# Altium schematic symbol library Regulator_Switching.SchLib: 1279 symbols (part 6 of 14)
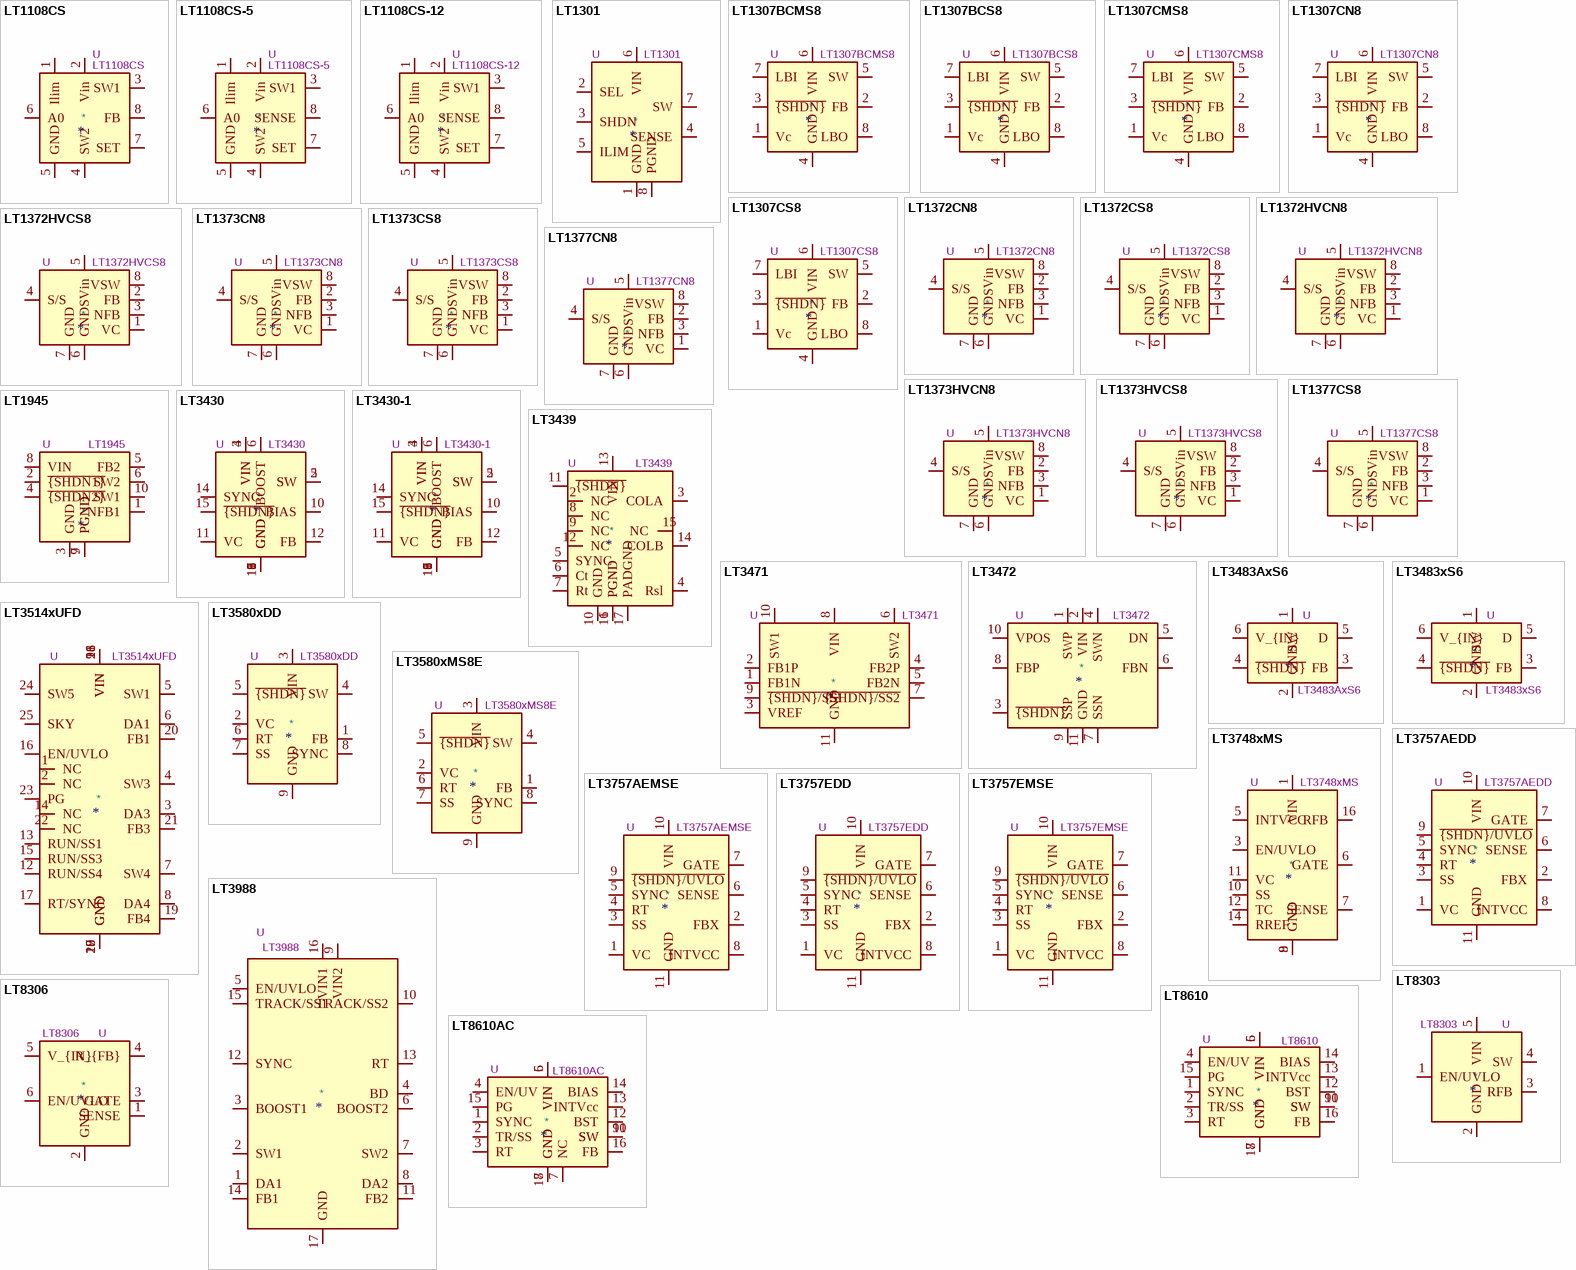
[diagram p37: symbols LT1108CS to LT8610AC]

## LT3439
designator *  value LT3439  Reference: U
1A Slew Rate Controlled Ultralow Noise Isolated DC/DC Transformer Driver, TSSOP-16; ki_fp_filters: TSSOP*EP*4.4x5mm*P0.65mm*; Footprint: Package_SO:TSSOP-16-1EP_4.4x5mm_P0.65mm; Datasheet: https://www.analog.com/media/en/technical-documentation/data-sheets/3439fs.pdf; Description_: 1A Slew Rate Controlled Ultralow Noise Isolated DC/DC Transformer Driver, TSSOP-16; ki_keywords: Isolated DC/DC Transformer Driver
pins: 1 PGND, 2 NC, 3 COLA, 4 Rsl, 5 SYNC, 6 Ct, 7 Rt, 8 NC, 9 NC, 10 GND, 11 ~{{SHDN}}, 12 NC, 13 VIN, 14 COLB, 15 NC, 16 PGND, 17 PADGND

## LT3471
designator *  value LT3471  Reference: U
Dual 1.3A, 1.2MHz Boost/Inverter, DFN-10; ki_keywords: dc/dc converter boost inverter; ki_fp_filters: DFN*1EP*3x3mm*P0.5mm*; Footprint: Package_DFN_QFN:DFN-10-1EP_3x3mm_P0.5mm_EP1.65x2.38mm; Datasheet: https://www.analog.com/media/en/technical-documentation/data-sheets/3471fb.pdf; Description_: Dual 1.3A, 1.2MHz Boost/Inverter, DFN-10
pins: 1 FB1N, 2 FB1P, 3 VREF, 4 FB2P, 5 FB2N, 6 SW2, 7 ~{{SHDN}/SS2}, 8 VIN, 9 ~{{SHDN}/SS1}, 10 SW1, 11 GND

## LT3472
designator *  value LT3472  Reference: U
Boost and Inverting DC/DC Converter for CCD Bias, DFN-10; ki_keywords: DC/DC converter CCD Bias Boost; ki_fp_filters: DFN*1EP*3x3mm*P0.5mm*; Footprint: Package_DFN_QFN:DFN-10-1EP_3x3mm_P0.5mm_EP1.65x2.38mm; Datasheet: https://www.analog.com/media/en/technical-documentation/data-sheets/3472f.pdf; Description_: Boost and Inverting DC/DC Converter for CCD Bias, DFN-10
pins: 1 SWP, 2 VIN, 3 ~{{SHDN}}, 4 SWN, 5 DN, 6 FBN, 7 SSN, 8 FBP, 9 SSP, 10 VPOS, 11 GND

## LT3483AxS6
designator *  value LT3483AxS6  Reference: U
Inverting Micropower DC/DC Converter with integrated schottky, 2.5V to 16V input, down to -38V output, 400mA, TSOT-23-6 package; ki_keywords: Inverting Converter Negative; ki_fp_filters: TSOT?23*; Footprint: Package_TO_SOT_SMD:TSOT-23-6; Datasheet: https://www.analog.com/media/en/technical-documentation/data-sheets/3483fc.pdf; Description_: Inverting Micropower DC/DC Converter with integrated schottky, 2.5V to 16V input, down to -38V output, 400mA, TSOT-23-6 package
pins: 1 SW, 2 GND, 3 FB, 4 ~{{SHDN}}, 5 D, 6 V_{IN}

## LT3483xS6
designator *  value LT3483xS6  Reference: U
Inverting Micropower DC/DC Converter with integrated schottky, 2.5V to 16V input, down to -38V output, 200mA, TSOT-23-6 package; ki_keywords: Inverting Converter Negative; ki_fp_filters: TSOT?23*; Footprint: Package_TO_SOT_SMD:TSOT-23-6; Datasheet: https://www.analog.com/media/en/technical-documentation/data-sheets/3483fc.pdf; Description_: Inverting Micropower DC/DC Converter with integrated schottky, 2.5V to 16V input, down to -38V output, 200mA, TSOT-23-6 package
pins: 1 SW, 2 GND, 3 FB, 4 ~{{SHDN}}, 5 D, 6 V_{IN}

## LT3514xUFD
designator *  value LT3514xUFD  Reference: U
Triple Step-Down Switching Regulator with 100% Duty Cycle Operation, QFN-28; ki_fp_filters: QFN*4x5mm*P0.5mm*; Footprint: Package_DFN_QFN:QFN-28-1EP_4x5mm_P0.5mm_EP2.65x3.65mm_ThermalVias; Datasheet: https://www.analog.com/media/en/technical-documentation/data-sheets/3514fa.pdf; Description_: Triple Step-Down Switching Regulator with 100% Duty Cycle Operation, QFN-28; ki_keywords: triple step-down
pins: 1 NC, 2 NC, 3 DA3, 4 SW3, 5 SW1, 6 DA1, 7 SW4, 8 DA4, 9 VIN, 10 GND, 11 VIN, 12 RUN/SS4, 13 RUN/SS1, 14 NC, 15 RUN/SS3, 16 EN/UVLO, 17 RT/SYNC, 18 GND, 19 FB4, 20 FB1, 21 FB3, 22 NC, 23 PG, 24 SW5, 25 SKY, 26 VIN, 27 GND, 28 VIN, 29 GND

## LT3580xDD
designator *  value LT3580xDD  Reference: U
Boost/Inverting DC/DC Converter with 2A Switch, Soft-Start, and Synchronization, DFN-8; ki_keywords: boost inverting dc-dc; ki_fp_filters: DFN*1EP*3x3mm*P0.5mm*; Footprint: Package_DFN_QFN:DFN-8-1EP_3x3mm_P0.5mm_EP1.66x2.38mm; Datasheet: https://www.analog.com/media/en/technical-documentation/data-sheets/3580fg.pdf; Description_: Boost/Inverting DC/DC Converter with 2A Switch, Soft-Start, and Synchronization, DFN-8
pins: 1 FB, 2 VC, 3 VIN, 4 SW, 5 ~{{SHDN}}, 6 RT, 7 SS, 8 SYNC, 9 GND

## LT3580xMS8E
designator *  value LT3580xMS8E  Reference: U
Boost/Inverting DC/DC Converter with 2A Switch, Soft-Start, and Synchronization, MSOP-8; ki_keywords: boost inverting dc-dc; ki_fp_filters: MSOP*1EP*3x3mm*P0.65mm*; Footprint: Package_SO:MSOP-8-1EP_3x3mm_P0.65mm_EP1.68x1.88mm; Datasheet: https://www.analog.com/media/en/technical-documentation/data-sheets/3580fg.pdf; Description_: Boost/Inverting DC/DC Converter with 2A Switch, Soft-Start, and Synchronization, MSOP-8
pins: 1 FB, 2 VC, 3 VIN, 4 SW, 5 ~{{SHDN}}, 6 RT, 7 SS, 8 SYNC, 9 GND

## LT3748xMS
designator *  value LT3748xMS  Reference: U
100V Isolated Flyback Controller, MSOP-16(12); ki_fp_filters: Analog*MSOP*3x4.039mm*P0.5mm*; Footprint: Package_SO:Analog_MSOP-12-16_3x4.039mm_P0.5mm; Datasheet: https://www.analog.com/media/en/technical-documentation/data-sheets/lt3748.pdf; Description_: 100V Isolated Flyback Controller, MSOP-16(12); ki_keywords: isolated flyback controller
pins: 1 VIN, 3 EN/UVLO, 5 INTVCC, 6 GATE, 7 SENSE, 8 GND, 9 GND, 10 SS, 11 VC, 12 TC, 14 RREF, 16 RFB

## LT3757AEDD
designator *  value LT3757AEDD  Reference: U
Boost, flyback, SEPIC and inverting regulator, improved load transient performance, DFN-10; ki_keywords: Boost flyback SEPIC inverting DC/DC regulator; ki_fp_filters: DFN*EP*3x3mm*P0.5mm*; Footprint: Package_DFN_QFN:DFN-10-1EP_3x3mm_P0.5mm_EP1.55x2.48mm; Datasheet: https://www.analog.com/media/en/technical-documentation/data-sheets/3757Afe.pdf; Description_: Boost, flyback, SEPIC and inverting regulator, improved load transient performance, DFN-10
pins: 1 VC, 2 FBX, 3 SS, 4 RT, 5 SYNC, 6 SENSE, 7 GATE, 8 INTVCC, 9 ~{{SHDN}/UVLO}, 10 VIN, 11 GND

## LT3757AEMSE
designator *  value LT3757AEMSE  Reference: U
Boost, flyback, SEPIC and inverting regulator, improved load transient performance, MSOP-10; ki_keywords: Boost flyback SEPIC inverting DC/DC regulator; ki_fp_filters: MSOP*EP*3x3mm*P0.5mm*; Footprint: Package_SO:MSOP-10-1EP_3x3mm_P0.5mm_EP1.68x1.88mm; Datasheet: https://www.analog.com/media/en/technical-documentation/data-sheets/3757Afe.pdf; Description_: Boost, flyback, SEPIC and inverting regulator, improved load transient performance, MSOP-10
pins: 1 VC, 2 FBX, 3 SS, 4 RT, 5 SYNC, 6 SENSE, 7 GATE, 8 INTVCC, 9 ~{{SHDN}/UVLO}, 10 VIN, 11 GND

## LT3757EDD
designator *  value LT3757EDD  Reference: U
Boost, flyback, SEPIC and inverting regulator. DFN-10; ki_keywords: Boost flyback SEPIC inverting DC/DC regulator; ki_fp_filters: DFN*EP*3x3mm*P0.5mm*; Footprint: Package_DFN_QFN:DFN-10-1EP_3x3mm_P0.5mm_EP1.55x2.48mm; Datasheet: https://www.analog.com/media/en/technical-documentation/data-sheets/3757Afe.pdf; Description_: Boost, flyback, SEPIC and inverting regulator. DFN-10
pins: 1 VC, 2 FBX, 3 SS, 4 RT, 5 SYNC, 6 SENSE, 7 GATE, 8 INTVCC, 9 ~{{SHDN}/UVLO}, 10 VIN, 11 GND

## LT3757EMSE
designator *  value LT3757EMSE  Reference: U
Boost, flyback, SEPIC and inverting regulator. MSOP-10; ki_keywords: Boost flyback SEPIC inverting DC/DC regulator; ki_fp_filters: MSOP*EP*3x3mm*P0.5mm*; Footprint: Package_SO:MSOP-10-1EP_3x3mm_P0.5mm_EP1.68x1.88mm; Datasheet: https://www.analog.com/media/en/technical-documentation/data-sheets/3757Afe.pdf; Description_: Boost, flyback, SEPIC and inverting regulator. MSOP-10
pins: 1 VC, 2 FBX, 3 SS, 4 RT, 5 SYNC, 6 SENSE, 7 GATE, 8 INTVCC, 9 ~{{SHDN}/UVLO}, 10 VIN, 11 GND

## LT3988
designator *  value LT3988  Reference: U
Dual 1A Switching Buck Regulator with Internal Switches; ki_keywords: Dual 60V 1A Step-Down Switching Regulator; ki_fp_filters: MSOP*16*1EP*3x4.039mm*P0.5mm*EP1.651x2.845mm*; Footprint: Package_SO:MSOP-16-1EP_3x4.039mm_P0.5mm_EP1.651x2.845mm; Datasheet: https://www.analog.com/media/en/technical-documentation/data-sheets/3988f.pdf; Description_: Dual 1A Switching Buck Regulator with Internal Switches
pins: 1 DA1, 2 SW1, 3 BOOST1, 4 BD, 5 EN/UVLO, 6 BOOST2, 7 SW2, 8 DA2, 9 VIN2, 10 TRACK/SS2, 11 FB2, 12 SYNC, 13 RT, 14 FB1, 15 TRACK/SS1, 16 VIN1, 17 GND

## LT8303
designator *  value LT8303  Reference: U
100VIN Micropower Isolated Flyback Converter with 150V/450mA Switch, TSOT-23-5; ki_keywords: Flyback switcher; ki_fp_filters: TSOT?23*; Footprint: Package_TO_SOT_SMD:TSOT-23-5; Datasheet: https://www.analog.com/media/en/technical-documentation/data-sheets/8303fa.pdf; Description_: 100VIN Micropower Isolated Flyback Converter with 150V/450mA Switch, TSOT-23-5
pins: 1 EN/UVLO, 2 GND, 3 RFB, 4 SW, 5 VIN

## LT8306
designator *  value LT8306  Reference: U
4.5-60Vin micropower isolated flyback controller, no-optoisolator, 8V NMOS gate drive, TSOT-23-6; ki_keywords: switcher; ki_fp_filters: TSOT?23*; Footprint: Package_TO_SOT_SMD:TSOT-23-6; Datasheet: https://www.analog.com/media/en/technical-documentation/data-sheets/lt8306.pdf; Description_: 4.5-60Vin micropower isolated flyback controller, no-optoisolator, 8V NMOS gate drive, TSOT-23-6
pins: 1 SENSE, 2 GND, 3 GATE, 4 R_{FB}, 5 V_{IN}, 6 EN/UVLO

## LT8610
designator *  value LT8610  Reference: U
42V, 2.5A Synchronous Step-Down Regulator with 2.5uA Quiescent Current, MSOP-16; ki_keywords: high efficiency speed synchronous monolithic buck step-down switching regulator 42V 2.5A; ki_fp_filters: MSOP*16*1EP*3x4.039mm*P0.5mm*; Footprint: Package_SO:MSOP-16-1EP_3x4.039mm_P0.5mm_EP1.651x2.845mm_ThermalVias; Datasheet: https://www.analog.com/media/en/technical-documentation/data-sheets/lt8610.pdf; Description_: 42V, 2.5A Synchronous Step-Down Regulator with 2.5uA Quiescent Current, MSOP-16
pins: 1 SYNC, 2 TR/SS, 3 RT, 4 EN/UV, 5 VIN, 6 VIN, 7 GND, 8 GND, 9 SW, 10 SW, 11 SW, 12 BST, 13 INTVcc, 14 BIAS, 15 PG, 16 FB, 17 GND

## LT8610AC
designator *  value LT8610AC  Reference: U
42V, 3.5A Synchronous Step-Down Regulator with 2.5uA Quiescent Current, 0.8V Feedback Voltage, 3.0V Minimum Vin, MSOP-16; ki_keywords: high efficiency speed synchronous monolithic buck step-down switching regulator 42V 3.5A lower feedback voltage minimum vin; ki_fp_filters: MSOP*16*1EP*3x4.039mm*P0.5mm*; Footprint: Package_SO:MSOP-16-1EP_3x4.039mm_P0.5mm_EP1.651x2.845mm_ThermalVias; Datasheet: https://www.analog.com/media/en/technical-documentation/data-sheets/lt8610ac-8610ac-1.pdf; Description_: 42V, 3.5A Synchronous Step-Down Regulator with 2.5uA Quiescent Current, 0.8V Feedback Voltage, 3.0V Minimum Vin, MSOP-16
pins: 1 SYNC, 2 TR/SS, 3 RT, 4 EN/UV, 5 VIN, 6 VIN, 7 NC, 8 GND, 9 SW, 10 SW, 11 SW, 12 BST, 13 INTVcc, 14 BIAS, 15 PG, 16 FB, 17 GND

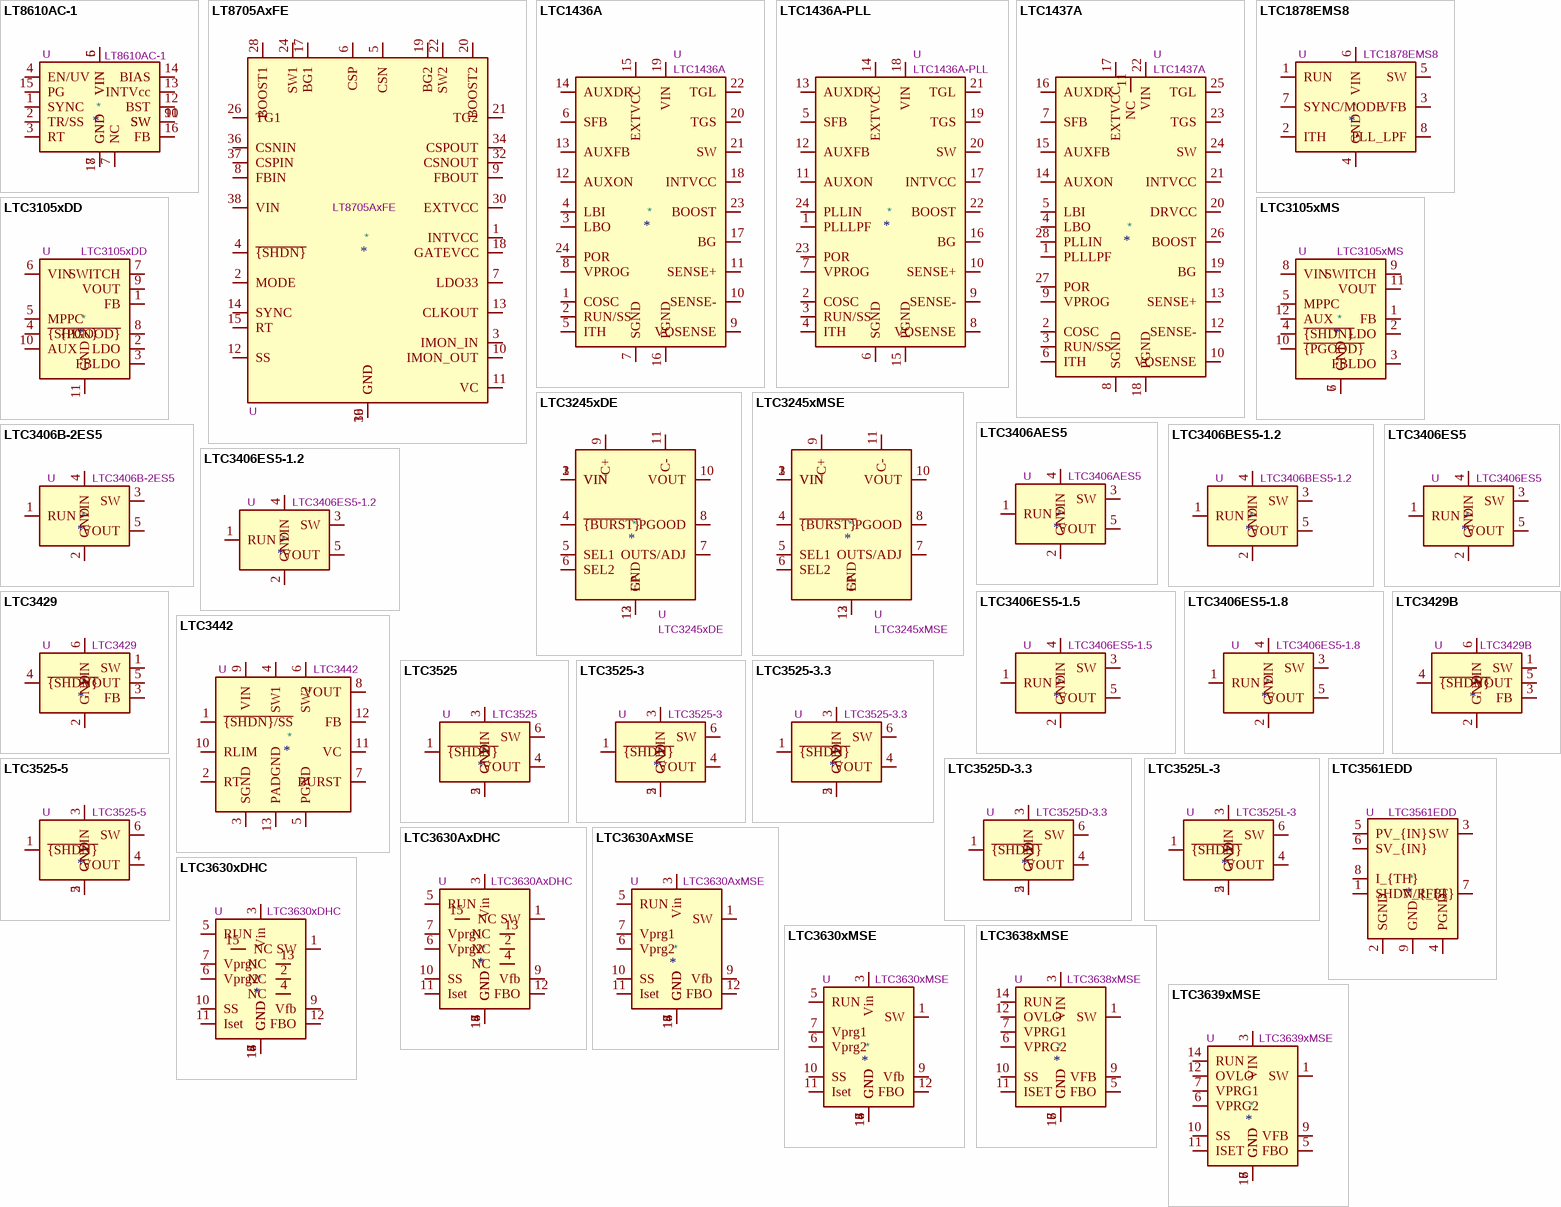
[diagram p13: symbols LT8610AC-1 to LTC3639xMSE]

## LT8610AC-1
designator *  value LT8610AC-1  Reference: U
42V, 3.5A Synchronous Step-Down Regulator with 2.5uA Quiescent Current, Internal Compensation for Improved Transient, Soft-Start at Dropout and Brownout, MSOP-16; ki_keywords: high efficiency speed synchronous monolithic buck step-down switching regulator 42V 3.5A lower feedback voltage minimum vin internal compensation soft-start; ki_fp_filters: LTC*MSOP*16*1EP*3x4mm*P0.5mm*EP2.15x3.26mm*; Footprint: Package_SO:LTC_MSOP-16-1EP_3x4mm_P0.5mm_EP2.15x3.26mm; Datasheet: https://www.analog.com/media/en/technical-documentation/data-sheets/8610acfa.pdf; Description_: 42V, 3.5A Synchronous Step-Down Regulator with 2.5uA Quiescent Current, Internal Compensation for Improved Transient, Soft-Start at Dropout and Brownout, MSOP-16
pins: 1 SYNC, 2 TR/SS, 3 RT, 4 EN/UV, 5 VIN, 6 VIN, 7 NC, 8 GND, 9 SW, 10 SW, 11 SW, 12 BST, 13 INTVcc, 14 BIAS, 15 PG, 16 FB, 17 GND

## LT8705AxFE
designator *  value LT8705AxFE  Reference: U
Synchronous 4-Switch Buck-Boost DC/DC Controller, 2.8..80V VIN, 1.3..80V VOUT, 100-400kHz, HTSSOP-38(31); ki_keywords: Analog-Devices Linear-Technology soft-start; ki_fp_filters: *HTSSOP*1EP*4.4*9.7*P0.5mm*EP2.74x4.75mm*; Footprint: Package_SO:Linear_HTSSOP-31-38-1EP_4.4x9.7mm_P0.5mm_EP2.74x4.75mm_ThermalVias; Datasheet: https://www.analog.com/media/en/technical-documentation/data-sheets/8705af.pdf; Description_: Synchronous 4-Switch Buck-Boost DC/DC Controller, 2.8..80V VIN, 1.3..80V VOUT, 100-400kHz, HTSSOP-38(31)
pins: 1 INTVCC, 2 MODE, 3 IMON_IN, 4 ~{{SHDN}}, 5 CSN, 6 CSP, 7 LDO33, 8 FBIN, 9 FBOUT, 10 IMON_OUT, 11 VC, 12 SS, 13 CLKOUT, 14 SYNC, 15 RT, 16 GND, 17 BG1, 18 GATEVCC, 19 BG2, 20 BOOST2, 21 TG2, 22 SW2, 24 SW1, 26 TG1, 28 BOOST1, 30 EXTVCC, 32 CSNOUT, 34 CSPOUT, 36 CSNIN, 37 CSPIN, 38 VIN, 39 GND

## LTC1436A
designator *  value LTC1436A  Reference: U
High Efficiency Low Noise Synchronous Step-Down Switching Regulators, SSOP-24; ki_keywords: buck controller 36V; ki_fp_filters: SSOP*3.9x8.7mm*P0.635mm*; Footprint: Package_SO:SSOP-24_3.9x8.7mm_P0.635mm; Datasheet: https://www.analog.com/media/en/technical-documentation/data-sheets/14367afb.pdf; Description_: High Efficiency Low Noise Synchronous Step-Down Switching Regulators, SSOP-24
pins: 1 COSC, 2 RUN/SS, 3 LBO, 4 LBI, 5 ITH, 6 SFB, 7 SGND, 8 VPROG, 9 VOSENSE, 10 SENSE-, 11 SENSE+, 12 AUXON, 13 AUXFB, 14 AUXDR, 15 EXTVCC, 16 PGND, 17 BG, 18 INTVCC, 19 VIN, 20 TGS, 21 SW, 22 TGL, 23 BOOST, 24 POR

## LTC1436A-PLL
designator *  value LTC1436A-PLL  Reference: U
High Efficiency Low Noise Synchronous Step-Down Switching Regulators, SSOP-24; ki_keywords: buck controller 36V; ki_fp_filters: SSOP*3.9x8.7mm*P0.635mm*; Footprint: Package_SO:SSOP-24_3.9x8.7mm_P0.635mm; Datasheet: https://www.analog.com/media/en/technical-documentation/data-sheets/14367afb.pdf; Description_: High Efficiency Low Noise Synchronous Step-Down Switching Regulators, SSOP-24
pins: 1 PLLLPF, 2 COSC, 3 RUN/SS, 4 ITH, 5 SFB, 6 SGND, 7 VPROG, 8 VOSENSE, 9 SENSE-, 10 SENSE+, 11 AUXON, 12 AUXFB, 13 AUXDR, 14 EXTVCC, 15 PGND, 16 BG, 17 INTVCC, 18 VIN, 19 TGS, 20 SW, 21 TGL, 22 BOOST, 23 POR, 24 PLLIN

## LTC1437A
designator *  value LTC1437A  Reference: U
High Efficiency Low Noise Synchronous Step-Down Switching Regulators, SSOP-28; ki_keywords: buck controller 36V; ki_fp_filters: SSOP*5.3x10.2mm*P0.65mm*; Footprint: Package_SO:SSOP-28_5.3x10.2mm_P0.65mm; Datasheet: https://www.analog.com/media/en/technical-documentation/data-sheets/14367afb.pdf; Description_: High Efficiency Low Noise Synchronous Step-Down Switching Regulators, SSOP-28
pins: 1 PLLLPF, 2 COSC, 3 RUN/SS, 4 LBO, 5 LBI, 6 ITH, 7 SFB, 8 SGND, 9 VPROG, 10 VOSENSE, 11 NC, 12 SENSE-, 13 SENSE+, 14 AUXON, 15 AUXFB, 16 AUXDR, 17 EXTVCC, 18 PGND, 19 BG, 20 DRVCC, 21 INTVCC, 22 VIN, 23 TGS, 24 SW, 25 TGL, 26 BOOST, 27 POR, 28 PLLIN

## LTC1878EMS8
designator *  value LTC1878EMS8  Reference: U
High Efficiency Monolithic Synchronous Step-Down Regulator, MSOP-8; ki_fp_filters: MSOP*3x3mm*P0.65mm*; Footprint: Package_SO:MSOP-8_3x3mm_P0.65mm; Datasheet: https://www.analog.com/media/en/technical-documentation/data-sheets/1878f.pdf; Description_: High Efficiency Monolithic Synchronous Step-Down Regulator, MSOP-8; ki_keywords: Synchronous Step-Down Regulator
pins: 1 RUN, 2 ITH, 3 VFB, 4 GND, 5 SW, 6 VIN, 7 SYNC/MODE, 8 PLL_LPF

## LTC3105xDD
designator *  value LTC3105xDD  Reference: U
400mA Step-Up DC/DC Converter with Maximum Power Point Control and 250mV Start-Up, DFN-10; ki_keywords: Solar MPPT Maximum Power Point Control Converter Step-Up; ki_fp_filters: DFN*EP*3x3mm*0.5mm*EP*; Footprint: Package_DFN_QFN:DFN-10-1EP_3x3mm_P0.5mm_EP1.65x2.38mm; Datasheet: https://www.analog.com/media/en/technical-documentation/data-sheets/3105fb.pdf; Description_: 400mA Step-Up DC/DC Converter with Maximum Power Point Control and 250mV Start-Up, DFN-10
pins: 1 FB, 2 LDO, 3 FBLDO, 4 ~{{SHDN}}, 5 MPPC, 6 VIN, 7 SWITCH, 8 ~{{PGOOD}}, 9 VOUT, 10 AUX, 11 GND

## LTC3105xMS
designator *  value LTC3105xMS  Reference: U
400mA Step-Up DC/DC Converter with Maximum Power Point Control and 250mV Start-Up, MSOP-12; ki_keywords: Solar MPPT Maximum Power Point Control Converter Step-Up; ki_fp_filters: MSOP*3x4.039mm*0.65mm*; Footprint: Package_SO:MSOP-12_3x4.039mm_P0.65mm; Datasheet: https://www.analog.com/media/en/technical-documentation/data-sheets/3105fb.pdf; Description_: 400mA Step-Up DC/DC Converter with Maximum Power Point Control and 250mV Start-Up, MSOP-12
pins: 1 FB, 2 LDO, 3 FBLDO, 4 ~{{SHDN}}, 5 MPPC, 6 GND, 7 GND, 8 VIN, 9 SWITCH, 10 ~{{PGOOD}}, 11 VOUT, 12 AUX

## LTC3245xDE
designator *  value LTC3245xDE  Reference: U
Wide VIN Range, Low Noise, 250mA Buck-Boost Charge Pump, DFN-12; ki_keywords: widerange  lownoise buckboost chargepump; ki_fp_filters: *DFN*3x4mm*P0.5mm*; Footprint: Package_DFN_QFN:DFN-12-1EP_3x4mm_P0.5mm_EP1.7x3.3mm; Datasheet: https://www.analog.com/media/en/technical-documentation/data-sheets/ltc3245.pdf; Description_: Wide VIN Range, Low Noise, 250mA Buck-Boost Charge Pump, DFN-12
pins: 1 VIN, 2 VIN, 3 VIN, 4 ~{{BURST}}, 5 SEL1, 6 SEL2, 7 OUTS/ADJ, 8 PGOOD, 9 C+, 10 VOUT, 11 C-, 12 GND, 13 EP

## LTC3245xMSE
designator *  value LTC3245xMSE  Reference: U
Wide VIN Range, Low Noise, 250mA Buck-Boost Charge Pump, MSOP-12; ki_keywords: widerange  lownoise buckboost chargepump; ki_fp_filters: *MSOP*3x4.039mm*P0.65mm*EP1.651x2.845mm*; Footprint: Package_SO:MSOP-12-1EP_3x4.039mm_P0.65mm_EP1.651x2.845mm; Datasheet: https://www.analog.com/media/en/technical-documentation/data-sheets/ltc3245.pdf; Description_: Wide VIN Range, Low Noise, 250mA Buck-Boost Charge Pump, MSOP-12
pins: 1 VIN, 2 VIN, 3 VIN, 4 ~{{BURST}}, 5 SEL1, 6 SEL2, 7 OUTS/ADJ, 8 PGOOD, 9 C+, 10 VOUT, 11 C-, 12 GND, 13 EP

## LTC3406AES5
designator *  value LTC3406AES5  Reference: U
600mA Synchronous Step-Down Regulator, 1.5MHz, Fixed 1.2V Output Voltage, Low Ripple Burst Mode, ThinSOT-23; ki_keywords: Regulator step-down; ki_fp_filters: TSOT?23*; Footprint: Package_TO_SOT_SMD:TSOT-23-5; Datasheet: https://www.analog.com/media/en/technical-documentation/data-sheets/3406afa.pdf; Description_: 600mA Synchronous Step-Down Regulator, 1.5MHz, Fixed 1.2V Output Voltage, Low Ripple Burst Mode, ThinSOT-23
pins: 1 RUN, 2 GND, 3 SW, 4 VIN, 5 VOUT

## LTC3406B-2ES5
designator *  value LTC3406B-2ES5  Reference: U
600mA Synchronous Step-Down Regulator, 2.25MHz, Adjustable Output Voltage,ThinSOT-23; ki_keywords: Regulator step-down; ki_fp_filters: TSOT?23*; Footprint: Package_TO_SOT_SMD:TSOT-23-5; Datasheet: https://www.analog.com/media/en/technical-documentation/data-sheets/3406b2fs.pdf; Description_: 600mA Synchronous Step-Down Regulator, 2.25MHz, Adjustable Output Voltage,ThinSOT-23
pins: 1 RUN, 2 GND, 3 SW, 4 VIN, 5 VOUT

## LTC3406BES5-1.2
designator *  value LTC3406BES5-1.2  Reference: U
600mA Synchronous Step-Down Regulator, 1.5MHz, Fixed 1.2V Output Voltage, Burst Mode Disabled, ThinSOT-23; ki_keywords: Regulator step-down; ki_fp_filters: TSOT?23*; Footprint: Package_TO_SOT_SMD:TSOT-23-5; Datasheet: https://www.analog.com/media/en/technical-documentation/data-sheets/3406b12fs.pdf; Description_: 600mA Synchronous Step-Down Regulator, 1.5MHz, Fixed 1.2V Output Voltage, Burst Mode Disabled, ThinSOT-23
pins: 1 RUN, 2 GND, 3 SW, 4 VIN, 5 VOUT

## LTC3406ES5
designator *  value LTC3406ES5  Reference: U
600mA Synchronous Step-Down Regulator, 1.5MHz, Adjustable Output Voltage, Burst Mode, ThinSOT-23; ki_keywords: Regulator step-down; ki_fp_filters: TSOT?23*; Footprint: Package_TO_SOT_SMD:TSOT-23-5; Datasheet: https://www.analog.com/media/en/technical-documentation/data-sheets/3406b12fs.pdf; Description_: 600mA Synchronous Step-Down Regulator, 1.5MHz, Adjustable Output Voltage, Burst Mode, ThinSOT-23
pins: 1 RUN, 2 GND, 3 SW, 4 VIN, 5 VOUT

## LTC3406ES5-1.2
designator *  value LTC3406ES5-1.2  Reference: U
600mA Synchronous Step-Down Regulator, 1.5MHz, Fixed 1.2V Output Voltage, Burst Mode, ThinSOT-23; ki_keywords: Regulator step-down; ki_fp_filters: TSOT?23*; Footprint: Package_TO_SOT_SMD:TSOT-23-5; Datasheet: https://www.analog.com/media/en/technical-documentation/data-sheets/3406b12fs.pdf; Description_: 600mA Synchronous Step-Down Regulator, 1.5MHz, Fixed 1.2V Output Voltage, Burst Mode, ThinSOT-23
pins: 1 RUN, 2 GND, 3 SW, 4 VIN, 5 VOUT

## LTC3406ES5-1.5
designator *  value LTC3406ES5-1.5  Reference: U
600mA Synchronous Step-Down Regulator, 1.5MHz, Fixed 1.5V Output Voltage, Burst Mode, ThinSOT-23; ki_keywords: Regulator step-down; ki_fp_filters: TSOT?23*; Footprint: Package_TO_SOT_SMD:TSOT-23-5; Datasheet: https://www.analog.com/media/en/technical-documentation/data-sheets/3406b12fs.pdf; Description_: 600mA Synchronous Step-Down Regulator, 1.5MHz, Fixed 1.5V Output Voltage, Burst Mode, ThinSOT-23
pins: 1 RUN, 2 GND, 3 SW, 4 VIN, 5 VOUT

## LTC3406ES5-1.8
designator *  value LTC3406ES5-1.8  Reference: U
600mA Synchronous Step-Down Regulator, 1.5MHz, Fixed 1.8V Output Voltage, Burst Mode, ThinSOT-23; ki_keywords: Regulator step-down; ki_fp_filters: TSOT?23*; Footprint: Package_TO_SOT_SMD:TSOT-23-5; Datasheet: https://www.analog.com/media/en/technical-documentation/data-sheets/3406b12fs.pdf; Description_: 600mA Synchronous Step-Down Regulator, 1.5MHz, Fixed 1.8V Output Voltage, Burst Mode, ThinSOT-23
pins: 1 RUN, 2 GND, 3 SW, 4 VIN, 5 VOUT

## LTC3429
designator *  value LTC3429  Reference: U
600mA, 500kHz Micropower Synchronous Boost Converter with Output Disconnect, TSOT-23-6; ki_keywords: boost step-up DC/DC synchronous; ki_fp_filters: TSOT?23*; Footprint: Package_TO_SOT_SMD:TSOT-23-6; Datasheet: https://www.analog.com/media/en/technical-documentation/data-sheets/3429fa.pdf; Description_: 600mA, 500kHz Micropower Synchronous Boost Converter with Output Disconnect, TSOT-23-6
pins: 1 SW, 2 GND, 3 FB, 4 ~{{SHDN}}, 5 VOUT, 6 VIN

## LTC3429B
designator *  value LTC3429B  Reference: U
600mA, 500kHz Micropower Synchronous Boost Converter with Output Disconnect, Continuous Switching at Light Loads, TSOT-23-6; ki_keywords: boost step-up DC/DC synchronous; ki_fp_filters: TSOT?23*; Footprint: Package_TO_SOT_SMD:TSOT-23-6; Datasheet: https://www.analog.com/media/en/technical-documentation/data-sheets/3429fa.pdf; Description_: 600mA, 500kHz Micropower Synchronous Boost Converter with Output Disconnect, Continuous Switching at Light Loads, TSOT-23-6
pins: 1 SW, 2 GND, 3 FB, 4 ~{{SHDN}}, 5 VOUT, 6 VIN

## LTC3442
designator *  value LTC3442  Reference: U
Micropower Synchronous Buck-Boost DC/DC Converter with Automatic Burst Mode Operation, DFN-12; ki_fp_filters: DFN*EP*3x4mm*P0.5mm*; Footprint: Package_DFN_QFN:DFN-12-1EP_3x4mm_P0.5mm_EP1.7x3.3mm; Datasheet: https://www.analog.com/media/en/technical-documentation/data-sheets/3442fb.pdf; Description_: Micropower Synchronous Buck-Boost DC/DC Converter with Automatic Burst Mode Operation, DFN-12; ki_keywords: Micropower Synchronous Buck-Boost DC/DC Converter
pins: 1 ~{{SHDN}/SS}, 2 RT, 3 SGND, 4 SW1, 5 PGND, 6 SW2, 7 BURST, 8 VOUT, 9 VIN, 10 RLIM, 11 VC, 12 FB, 13 PADGND

## LTC3525
designator *  value LTC3525  Reference: U
400mA Micropower Synchronous Step-Up DC/DC Converter with Output Disconnect, SC-70-6; ki_keywords: boost step-up DC/DC synchronous; ki_fp_filters: *SC?70* SOT?363*; Footprint: Package_TO_SOT_SMD:SOT-363_SC-70-6; Datasheet: https://www.analog.com/media/en/technical-documentation/data-sheets/3525fc.pdf; Description_: 400mA Micropower Synchronous Step-Up DC/DC Converter with Output Disconnect, SC-70-6
pins: 1 ~{{SHDN}}, 2 GND, 3 VIN, 4 VOUT, 5 GND, 6 SW

## LTC3525-3
designator *  value LTC3525-3  Reference: U
Fixed 3V, 400mA Micropower Synchronous Step-Up DC/DC Converter with Output Disconnect, SC-70-6; ki_keywords: fixed boost step-up DC/DC synchronous; ki_fp_filters: *SC?70* SOT?363*; Footprint: Package_TO_SOT_SMD:SOT-363_SC-70-6; Datasheet: https://www.analog.com/media/en/technical-documentation/data-sheets/3525fc.pdf; Description_: Fixed 3V, 400mA Micropower Synchronous Step-Up DC/DC Converter with Output Disconnect, SC-70-6
pins: 1 ~{{SHDN}}, 2 GND, 3 VIN, 4 VOUT, 5 GND, 6 SW

## LTC3525-3.3
designator *  value LTC3525-3.3  Reference: U
Fixed 3V3, 400mA Micropower Synchronous Step-Up DC/DC Converter with Output Disconnect, SC-70-6; ki_keywords: fixed boost step-up DC/DC synchronous; ki_fp_filters: *SC?70* SOT?363*; Footprint: Package_TO_SOT_SMD:SOT-363_SC-70-6; Datasheet: https://www.analog.com/media/en/technical-documentation/data-sheets/3525fc.pdf; Description_: Fixed 3V3, 400mA Micropower Synchronous Step-Up DC/DC Converter with Output Disconnect, SC-70-6
pins: 1 ~{{SHDN}}, 2 GND, 3 VIN, 4 VOUT, 5 GND, 6 SW

## LTC3525-5
designator *  value LTC3525-5  Reference: U
Fixed 5V, 400mA Micropower Synchronous Step-Up DC/DC Converter with Output Disconnect, SC-70-6; ki_keywords: fixed boost step-up DC/DC synchronous; ki_fp_filters: *SC?70* SOT?363*; Footprint: Package_TO_SOT_SMD:SOT-363_SC-70-6; Datasheet: https://www.analog.com/media/en/technical-documentation/data-sheets/3525fc.pdf; Description_: Fixed 5V, 400mA Micropower Synchronous Step-Up DC/DC Converter with Output Disconnect, SC-70-6
pins: 1 ~{{SHDN}}, 2 GND, 3 VIN, 4 VOUT, 5 GND, 6 SW

## LTC3525D-3.3
designator *  value LTC3525D-3.3  Reference: U
Fixed 3V3, 400mA Micropower Synchronous Step-Up DC/DC Converter with Pass Through Mode, SC-70-6; ki_keywords: fixed boost step-up DC/DC synchronous; ki_fp_filters: *SC?70* SOT?363*; Footprint: Package_TO_SOT_SMD:SOT-363_SC-70-6; Datasheet: https://www.analog.com/media/en/technical-documentation/data-sheets/3525d33fb.pdf; Description_: Fixed 3V3, 400mA Micropower Synchronous Step-Up DC/DC Converter with Pass Through Mode, SC-70-6
pins: 1 ~{{SHDN}}, 2 GND, 3 VIN, 4 VOUT, 5 GND, 6 SW

## LTC3525L-3
designator *  value LTC3525L-3  Reference: U
Fixed 3V, 400mA Micropower Synchronous Step-Up DC/DC Converter with Output Disconnect, SC-70-6; ki_keywords: fixed boost step-up DC/DC synchronous; ki_fp_filters: *SC?70* SOT?363*; Footprint: Package_TO_SOT_SMD:SOT-363_SC-70-6; Datasheet: https://www.analog.com/media/en/technical-documentation/data-sheets/3525laf.pdf; Description_: Fixed 3V, 400mA Micropower Synchronous Step-Up DC/DC Converter with Output Disconnect, SC-70-6
pins: 1 ~{{SHDN}}, 2 GND, 3 VIN, 4 VOUT, 5 GND, 6 SW

## LTC3561EDD
designator *  value LTC3561EDD  Reference: U
1A, 0.8V to 5V out, up to 4MHz Synchronous buck converter with internal switch, DFN-8; ki_keywords: buck internal switch dc/dc; ki_fp_filters: DFN*1EP*3x3mm*P0.5mm*EP1.65x2.38mm*; Footprint: Package_DFN_QFN:DFN-8-1EP_3x3mm_P0.5mm_EP1.65x2.38mm; Datasheet: https://www.analog.com/media/en/technical-documentation/data-sheets/3561f.pdf; Description_: 1A, 0.8V to 5V out, up to 4MHz Synchronous buck converter with internal switch, DFN-8
pins: 1 SHDN/R_{T}, 2 SGND, 3 SW, 4 PGND, 5 PV_{IN}, 6 SV_{IN}, 7 V_{FB}, 8 I_{TH}, 9 GND

## LTC3630AxDHC
designator *  value LTC3630AxDHC  Reference: U
High efficiency 76V 500mA synchronous step-down converter, DFN-16; ki_keywords: buck dc-dc switcher switching; ki_fp_filters: DFN*EP*3x5mm*P0.5mm*; Footprint: Package_DFN_QFN:DFN-16-1EP_3x5mm_P0.5mm_EP1.66x4.4mm; Datasheet: https://www.analog.com/media/en/technical-documentation/data-sheets/3630afc.pdf; Description_: High efficiency 76V 500mA synchronous step-down converter, DFN-16
pins: 1 SW, 2 NC, 3 Vin, 4 NC, 5 RUN, 6 Vprg2, 7 Vprg1, 8 GND, 9 Vfb, 10 SS, 11 Iset, 12 FBO, 13 NC, 14 GND, 15 NC, 16 GND, 17 GND

## LTC3630AxMSE
designator *  value LTC3630AxMSE  Reference: U
High efficiency 76V 500mA synchronous step-down converter, MSOP-16(12); ki_keywords: buck dc-dc switcher switching; ki_fp_filters: Analog*MSOP*12*16*EP*3x4.039mm*P0.5mm*; Footprint: Package_SO:Analog_MSOP-12-16-1EP_3x4.039mm_P0.5mm_EP1.651x2.845mm; Datasheet: https://www.analog.com/media/en/technical-documentation/data-sheets/3630afc.pdf; Description_: High efficiency 76V 500mA synchronous step-down converter, MSOP-16(12)
pins: 1 SW, 3 Vin, 5 RUN, 6 Vprg2, 7 Vprg1, 8 GND, 9 Vfb, 10 SS, 11 Iset, 12 FBO, 14 GND, 16 GND, 17 GND

## LTC3630xDHC
designator *  value LTC3630xDHC  Reference: U
500mA High efficiency 65V synchronous step-down converter, DFN-16; ki_keywords: buck dc-dc switcher switching; ki_fp_filters: DFN*EP*3x5mm*P0.5mm*; Footprint: Package_DFN_QFN:DFN-16-1EP_3x5mm_P0.5mm_EP1.66x4.4mm; Datasheet: https://www.analog.com/media/en/technical-documentation/data-sheets/3630fd.pdf; Description_: 500mA High efficiency 65V synchronous step-down converter, DFN-16
pins: 1 SW, 2 NC, 3 Vin, 4 NC, 5 RUN, 6 Vprg2, 7 Vprg1, 8 GND, 9 Vfb, 10 SS, 11 Iset, 12 FBO, 13 NC, 14 GND, 15 NC, 16 GND, 17 GND

## LTC3630xMSE
designator *  value LTC3630xMSE  Reference: U
500mA High efficiency 65V synchronous step-down converter, MSOP-16(12); ki_keywords: buck dc-dc switcher switching; ki_fp_filters: Analog*MSOP*12*16*EP*3x4.039mm*P0.5mm*; Footprint: Package_SO:Analog_MSOP-12-16-1EP_3x4.039mm_P0.5mm_EP1.651x2.845mm; Datasheet: https://www.analog.com/media/en/technical-documentation/data-sheets/3630fd.pdf; Description_: 500mA High efficiency 65V synchronous step-down converter, MSOP-16(12)
pins: 1 SW, 3 Vin, 5 RUN, 6 Vprg2, 7 Vprg1, 8 GND, 9 Vfb, 10 SS, 11 Iset, 12 FBO, 14 GND, 16 GND, 17 GND

## LTC3638xMSE
designator *  value LTC3638xMSE  Reference: U
250mA High efficiency 140V step-down converter, MSOP-16(12); ki_keywords: buck dc-dc switcher switching; ki_fp_filters: Analog*MSOP*12*16*EP*3x4.039mm*P0.5mm*; Footprint: Package_SO:Analog_MSOP-12-16-1EP_3x4.039mm_P0.5mm_EP1.651x2.845mm; Datasheet: https://www.analog.com/media/en/technical-documentation/data-sheets/3638fa.pdf; Description_: 250mA High efficiency 140V step-down converter, MSOP-16(12)
pins: 1 SW, 3 VIN, 5 FBO, 6 VPRG2, 7 VPRG1, 8 GND, 9 VFB, 10 SS, 11 ISET, 12 OVLO, 14 RUN, 16 GND, 17 GND

## LTC3639xMSE
designator *  value LTC3639xMSE  Reference: U
100mA High efficiency 150V syncrhonous step-down converter, MSOP-16(12); ki_keywords: buck dc-dc switcher switching; ki_fp_filters: Analog*MSOP*12*16*EP*3x4.039mm*P0.5mm*; Footprint: Package_SO:Analog_MSOP-12-16-1EP_3x4.039mm_P0.5mm_EP1.651x2.845mm; Datasheet: https://www.analog.com/media/en/technical-documentation/data-sheets/3639fd.pdf; Description_: 100mA High efficiency 150V syncrhonous step-down converter, MSOP-16(12)
pins: 1 SW, 3 VIN, 5 FBO, 6 VPRG2, 7 VPRG1, 8 GND, 9 VFB, 10 SS, 11 ISET, 12 OVLO, 14 RUN, 16 GND, 17 GND

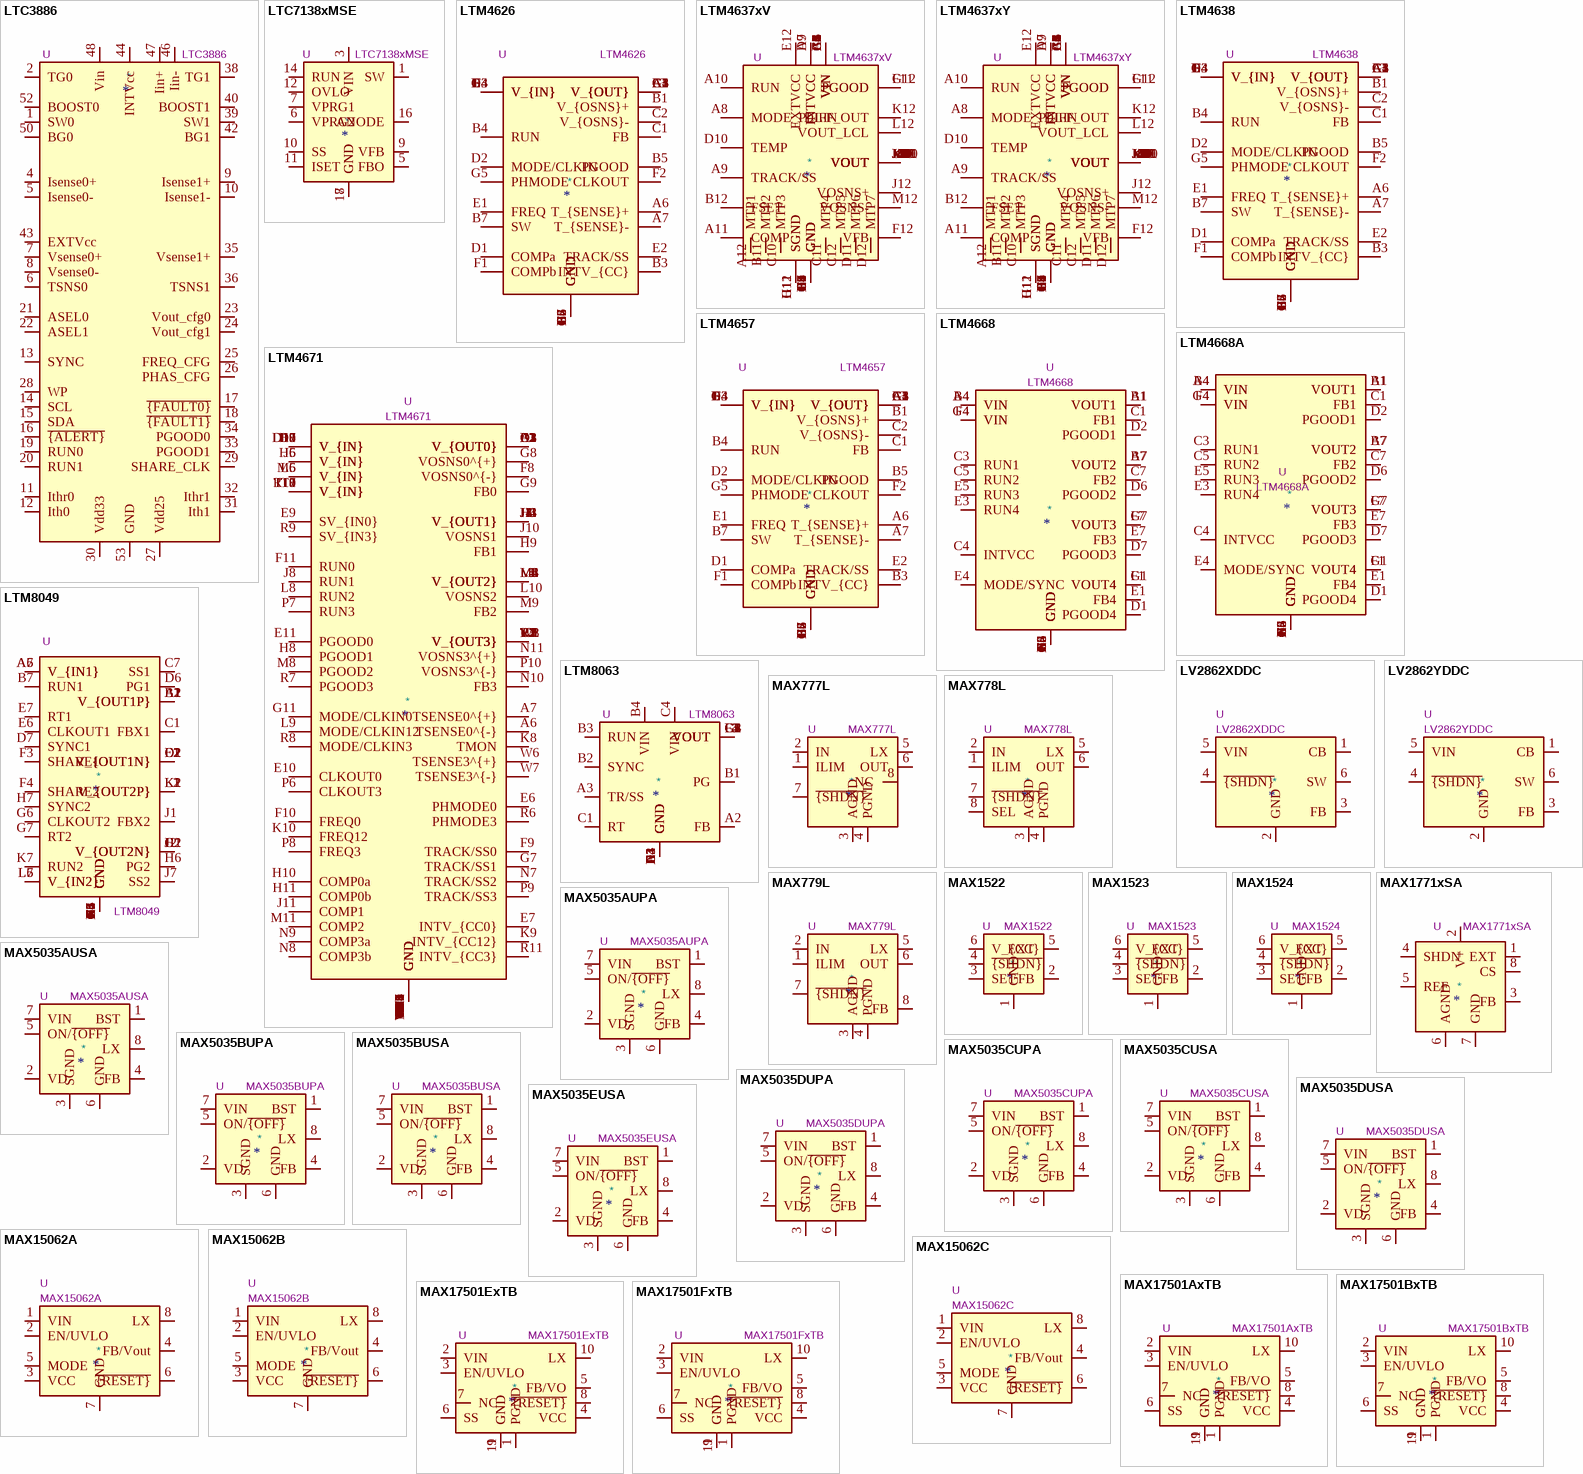
[diagram p14: symbols LTC3886 to MAX17501FxTB]

## LTC3886
designator *  value LTC3886  Reference: U
60V dual output buck output with digital power system management, UKG52(46); ki_keywords: step down switch manager I2C telemetry fault current sense; ki_fp_filters: Linear*UGK52*QFN*46*52*; Footprint: Package_DFN_QFN:Linear_UGK52_QFN-46-52; Datasheet: https://www.analog.com/media/en/technical-documentation/data-sheets/LTC3886-3886-1.pdf; Description_: 60V dual output buck output with digital power system management, UKG52(46)
pins: 1 SW0, 2 TG0, 4 Isense0+, 5 Isense0-, 6 TSNS0, 7 Vsense0+, 8 Vsense0-, 9 Isense1+, 10 Isense1-, 11 Ithr0, 12 Ith0, 13 SYNC, 14 SCL, 15 SDA, 16 ~{{ALERT}}, 17 ~{{FAULT0}}, 18 ~{{FAULT1}}, 19 RUN0, 20 RUN1, 21 ASEL0, 22 ASEL1, 23 Vout_cfg0, 24 Vout_cfg1, 25 FREQ_CFG, 26 PHAS_CFG, 27 Vdd25, 28 WP, 29 SHARE_CLK, 30 Vdd33, 31 Ith1, 32 Ithr1, 33 PGOOD1, 34 PGOOD0, 35 Vsense1+, 36 TSNS1, 38 TG1, 39 SW1, 40 BOOST1, 42 BG1, 43 EXTVcc, 44 INTVcc, 46 Iin-, 47 Iin+, 48 Vin, 50 BG0, 52 BOOST0, 53 GND

## LTC7138xMSE
designator *  value LTC7138xMSE  Reference: U
400mA High efficiency 140V step-down converter, MSOP-16(12); ki_keywords: buck dc-dc switcher switching; ki_fp_filters: Analog*MSOP*12*16*EP*3x4.039mm*P0.5mm*; Footprint: Package_SO:Analog_MSOP-12-16-1EP_3x4.039mm_P0.5mm_EP1.651x2.845mm; Datasheet: https://www.analog.com/media/en/technical-documentation/data-sheets/7138f.pdf; Description_: 400mA High efficiency 140V step-down converter, MSOP-16(12)
pins: 1 SW, 3 VIN, 5 FBO, 6 VPRG2, 7 VPRG1, 8 GND, 9 VFB, 10 SS, 11 ISET, 12 OVLO, 14 RUN, 16 ANODE, 17 GND

## LTM4626
designator *  value LTM4626  Reference: U
Analog Devices 20VIN, 12A Step-Down DC/DC uModule Regulator, BGA-49; ki_keywords: uModule Buck Regulator; ki_fp_filters: Analog*BGA*6.25x6.25mm*Layout7x7*P0.8mm*; Footprint: Package_BGA:Analog_BGA-49_6.25x6.25mm_Layout7x7_P0.8mm; Datasheet: https://www.analog.com/media/en/technical-documentation/data-sheets/ltm4626.pdf; Description_: Analog Devices 20VIN, 12A Step-Down DC/DC uModule Regulator, BGA-49
pins: A1 V_{OUT}, A2 V_{OUT}, A3 V_{OUT}, A4 V_{OUT}, A5 V_{OUT}, A6 T_{SENSE}+, A7 T_{SENSE}-, B1 V_{OSNS}+, B2 GND, B3 INTV_{CC}, B4 RUN, B5 PGOOD, B6 GND, B7 SW, C1 FB, C2 V_{OSNS}-, C3 GND, C4 GND, C5 GND, C6 GND, C7 GND, D1 COMPa, D2 MODE/CLKIN, D3 V_{IN}, D4 V_{IN}, D5 GND, D6 GND, D7 GND, E1 FREQ, E2 TRACK/SS, E3 V_{IN}, E4 V_{IN}, E5 GND, E6 GND, E7 GND, F1 COMPb, F2 CLKOUT, F3 V_{OUT}, F4 V_{IN}, F5 GND, F6 GND, F7 GND, G1 V_{OUT}, G2 V_{OUT}, G3 V_{OUT}, G4 V_{IN}, G5 PHMODE, G6 GND, G7 GND

## LTM4637xV
designator *  value LTM4637xV  Reference: U
20A DC/DC µModule Step-Down Regulator, LGA-133; ki_keywords: uModule DCDC; ki_fp_filters: Linear*LGA*15.0x15.0mm*Layout12x12*P1.27mm*; Footprint: Package_LGA:Linear_LGA-133_15.0x15.0mm_Layout12x12_P1.27mm; Datasheet: https://www.analog.com/media/en/technical-documentation/data-sheets/4637fc.pdf; Description_: 20A DC/DC µModule Step-Down Regulator, LGA-133
pins: A1 VIN, A2 VIN, A3 VIN, A4 VIN, A5 VIN, A6 VIN, A7 INTVCC, A8 MODE_PLLIN, A9 TRACK/SS, A10 RUN, A11 COMP, A12 MTP1, B1 VIN, B2 VIN, B3 VIN, B4 VIN, B5 VIN, B6 VIN, B7 GND, B9 GND, B11 MTP2, B12 FSET, C1 VIN, C2 VIN, C3 VIN, C4 VIN, C5 VIN, C6 VIN, C7 GND, C9 GND, C10 MTP3, C11 MTP4, C12 MTP5, D1 GND, D2 GND, D3 GND, D4 GND, D5 GND, D6 GND, D8 GND, D9 INTVCC, D10 TEMP, D11 MTP6, D12 MTP7, E1 GND, E2 GND, E3 GND, E4 GND, E5 GND, E6 GND, E7 GND, E9 GND, E12 EXTVCC, F1 GND, F2 GND, F3 GND, F4 GND, F5 GND, F6 GND, F7 GND, F8 GND, F9 GND, F11 PGOOD, F12 VFB, G1 GND, G2 GND, G3 GND, G4 GND, G5 GND, G6 GND, G7 GND, G8 GND, G9 GND, G11 SGND, G12 PGOOD, H1 GND, H2 GND, H3 GND, H4 GND, H5 GND, H6 GND, H7 GND, H8 GND, H9 GND, H11 SGND, H12 SGND, J1 VOUT, J2 VOUT, J3 VOUT, J4 VOUT, J5 VOUT, J6 VOUT, J7 VOUT, J8 VOUT, J9 VOUT, J10 VOUT, J12 VOSNS+, K1 VOUT, K2 VOUT, K3 VOUT, K4 VOUT, K5 VOUT, K6 VOUT, K7 VOUT, K8 VOUT, K9 VOUT, K10 VOUT, K11 VOUT, K12 DIFF_OUT, L1 VOUT, L2 VOUT, L3 VOUT, L4 VOUT, L5 VOUT, L6 VOUT, L7 VOUT, L8 VOUT, L9 VOUT, L10 VOUT, L11 VOUT, L12 VOUT_LCL, M1 VOUT, M2 VOUT, M3 VOUT, M4 VOUT, M5 VOUT, M6 VOUT, M7 VOUT, M8 VOUT, M9 VOUT, M10 VOUT, M11 VOUT, M12 VOSNS-

## LTM4637xY
designator *  value LTM4637xY  Reference: U
20A DC/DC µModule Step-Down Regulator, BGA-133; ki_keywords: uModule DCDC; ki_fp_filters: Linear*BGA*15.0x15.0mm*Layout12x12*P1.27mm*; Footprint: Package_BGA:Linear_BGA-133_15.0x15.0mm_Layout12x12_P1.27mm; Datasheet: https://www.analog.com/media/en/technical-documentation/data-sheets/4637fc.pdf; Description_: 20A DC/DC µModule Step-Down Regulator, BGA-133
pins: A1 VIN, A2 VIN, A3 VIN, A4 VIN, A5 VIN, A6 VIN, A7 INTVCC, A8 MODE_PLLIN, A9 TRACK/SS, A10 RUN, A11 COMP, A12 MTP1, B1 VIN, B2 VIN, B3 VIN, B4 VIN, B5 VIN, B6 VIN, B7 GND, B9 GND, B11 MTP2, B12 FSET, C1 VIN, C2 VIN, C3 VIN, C4 VIN, C5 VIN, C6 VIN, C7 GND, C9 GND, C10 MTP3, C11 MTP4, C12 MTP5, D1 GND, D2 GND, D3 GND, D4 GND, D5 GND, D6 GND, D8 GND, D9 INTVCC, D10 TEMP, D11 MTP6, D12 MTP7, E1 GND, E2 GND, E3 GND, E4 GND, E5 GND, E6 GND, E7 GND, E9 GND, E12 EXTVCC, F1 GND, F2 GND, F3 GND, F4 GND, F5 GND, F6 GND, F7 GND, F8 GND, F9 GND, F11 PGOOD, F12 VFB, G1 GND, G2 GND, G3 GND, G4 GND, G5 GND, G6 GND, G7 GND, G8 GND, G9 GND, G11 SGND, G12 PGOOD, H1 GND, H2 GND, H3 GND, H4 GND, H5 GND, H6 GND, H7 GND, H8 GND, H9 GND, H11 SGND, H12 SGND, J1 VOUT, J2 VOUT, J3 VOUT, J4 VOUT, J5 VOUT, J6 VOUT, J7 VOUT, J8 VOUT, J9 VOUT, J10 VOUT, J12 VOSNS+, K1 VOUT, K2 VOUT, K3 VOUT, K4 VOUT, K5 VOUT, K6 VOUT, K7 VOUT, K8 VOUT, K9 VOUT, K10 VOUT, K11 VOUT, K12 DIFF_OUT, L1 VOUT, L2 VOUT, L3 VOUT, L4 VOUT, L5 VOUT, L6 VOUT, L7 VOUT, L8 VOUT, L9 VOUT, L10 VOUT, L11 VOUT, L12 VOUT_LCL, M1 VOUT, M2 VOUT, M3 VOUT, M4 VOUT, M5 VOUT, M6 VOUT, M7 VOUT, M8 VOUT, M9 VOUT, M10 VOUT, M11 VOUT, M12 VOSNS-

## LTM4638
designator *  value LTM4638  Reference: U
Analog Devices 20VIN, 15A Step-Down DC/DC uModule Regulator, BGA-49; ki_keywords: uModule Buck Regulator; ki_fp_filters: Analog*BGA*6.25x6.25mm*Layout7x7*P0.8mm*; Footprint: Package_BGA:Analog_BGA-49_6.25x6.25mm_Layout7x7_P0.8mm; Datasheet: https://www.analog.com/media/en/technical-documentation/data-sheets/ltm4638.pdf; Description_: Analog Devices 20VIN, 15A Step-Down DC/DC uModule Regulator, BGA-49
pins: A1 V_{OUT}, A2 V_{OUT}, A3 V_{OUT}, A4 V_{OUT}, A5 V_{OUT}, A6 T_{SENSE}+, A7 T_{SENSE}-, B1 V_{OSNS}+, B2 GND, B3 INTV_{CC}, B4 RUN, B5 PGOOD, B6 GND, B7 SW, C1 FB, C2 V_{OSNS}-, C3 GND, C4 GND, C5 GND, C6 GND, C7 GND, D1 COMPa, D2 MODE/CLKIN, D3 V_{IN}, D4 V_{IN}, D5 GND, D6 GND, D7 GND, E1 FREQ, E2 TRACK/SS, E3 V_{IN}, E4 V_{IN}, E5 GND, E6 GND, E7 GND, F1 COMPb, F2 CLKOUT, F3 V_{OUT}, F4 V_{IN}, F5 GND, F6 GND, F7 GND, G1 V_{OUT}, G2 V_{OUT}, G3 V_{OUT}, G4 V_{IN}, G5 PHMODE, G6 GND, G7 GND

## LTM4657
designator *  value LTM4657  Reference: U
Analog Devices 20VIN, 8A Step-Down DC/DC uModule Regulator, BGA-49; ki_keywords: uModule Buck Regulator; ki_fp_filters: Analog*BGA*6.25x6.25mm*Layout7x7*P0.8mm*; Footprint: Package_BGA:Analog_BGA-49_6.25x6.25mm_Layout7x7_P0.8mm; Datasheet: https://www.analog.com/media/en/technical-documentation/data-sheets/ltm4657.pdf; Description_: Analog Devices 20VIN, 8A Step-Down DC/DC uModule Regulator, BGA-49
pins: A1 V_{OUT}, A2 V_{OUT}, A3 V_{OUT}, A4 V_{OUT}, A5 V_{OUT}, A6 T_{SENSE}+, A7 T_{SENSE}-, B1 V_{OSNS}+, B2 GND, B3 INTV_{CC}, B4 RUN, B5 PGOOD, B6 GND, B7 SW, C1 FB, C2 V_{OSNS}-, C3 GND, C4 GND, C5 GND, C6 GND, C7 GND, D1 COMPa, D2 MODE/CLKIN, D3 V_{IN}, D4 V_{IN}, D5 GND, D6 GND, D7 GND, E1 FREQ, E2 TRACK/SS, E3 V_{IN}, E4 V_{IN}, E5 GND, E6 GND, E7 GND, F1 COMPb, F2 CLKOUT, F3 V_{OUT}, F4 V_{IN}, F5 GND, F6 GND, F7 GND, G1 V_{OUT}, G2 V_{OUT}, G3 V_{OUT}, G4 V_{IN}, G5 PHMODE, G6 GND, G7 GND

## LTM4668
designator *  value LTM4668  Reference: U
Quad DC/DC μModule Regulator with Configurable 1.2A Output Array; ki_keywords: uModule DCDC; ki_fp_filters: Analog*BGA*6.25x6.25mm*Layout7x7*P0.8mm*; Footprint: Package_BGA:Analog_BGA-49_6.25x6.25mm_Layout7x7_P0.8mm; Datasheet: https://www.analog.com/media/en/technical-documentation/data-sheets/ltm4668.pdf; Description_: Quad DC/DC μModule Regulator with Configurable 1.2A Output Array
pins: A1 VOUT1, A2 GND, A3 GND, A4 VIN, A5 GND, A6 GND, A7 VOUT2, B1 VOUT1, B2 GND, B3 GND, B4 VIN, B5 GND, B6 GND, B7 VOUT2, C1 FB1, C2 GND, C3 RUN1, C4 INTVCC, C5 RUN2, C6 GND, C7 FB2, D1 PGOOD4, D2 PGOOD1, D3 GND, D4 GND, D5 GND, D6 PGOOD2, D7 PGOOD3, E1 FB4, E2 GND, E3 RUN4, E4 MODE/SYNC, E5 RUN3, E6 GND, E7 FB3, F1 VOUT4, F2 GND, F3 GND, F4 VIN, F5 GND, F6 GND, F7 VOUT3, G1 VOUT4, G2 GND, G3 GND, G4 VIN, G5 GND, G6 GND, G7 VOUT3

## LTM4668A
designator *  value LTM4668A  Reference: U
Quad DC/DC μModule Regulator with Configurable 1.2A Output Array; ki_keywords: uModule DCDC; ki_fp_filters: Analog*BGA*6.25x6.25mm*Layout7x7*P0.8mm*; Footprint: Package_BGA:Analog_BGA-49_6.25x6.25mm_Layout7x7_P0.8mm; Datasheet: https://www.analog.com/media/en/technical-documentation/data-sheets/ltm4668a.pdf; Description_: Quad DC/DC μModule Regulator with Configurable 1.2A Output Array
pins: A1 VOUT1, A2 GND, A3 GND, A4 VIN, A5 GND, A6 GND, A7 VOUT2, B1 VOUT1, B2 GND, B3 GND, B4 VIN, B5 GND, B6 GND, B7 VOUT2, C1 FB1, C2 GND, C3 RUN1, C4 INTVCC, C5 RUN2, C6 GND, C7 FB2, D1 PGOOD4, D2 PGOOD1, D3 GND, D4 GND, D5 GND, D6 PGOOD2, D7 PGOOD3, E1 FB4, E2 GND, E3 RUN4, E4 MODE/SYNC, E5 RUN3, E6 GND, E7 FB3, F1 VOUT4, F2 GND, F3 GND, F4 VIN, F5 GND, F6 GND, F7 VOUT3, G1 VOUT4, G2 GND, G3 GND, G4 VIN, G5 GND, G6 GND, G7 VOUT3

## LTM4671
designator *  value LTM4671  Reference: U
Quad DC/DC uModule Regulator with Configurable Dual 0.6-3.3V/12A, Dual 0.6-5.5V/5A Output Array, 3.1-20Vin (BGA-209); ki_keywords: uModule DCDC; ki_fp_filters: Analog*BGA*9.5x16mm*Layout11x19*P0.8mm*; Footprint: Package_BGA:Analog_BGA-209_9.5x16mm_Layout11x19_P0.8mm; Datasheet: https://www.analog.com/media/en/technical-documentation/data-sheets/LTM4671.pdf; Description_: Quad DC/DC uModule Regulator with Configurable Dual 0.6-3.3V/12A, Dual 0.6-5.5V/5A Output Array, 3.1-20Vin (BGA-209)
pins: A1 V_{OUT0}, A2 V_{OUT0}, A3 V_{OUT0}, A4 GND, A5 GND, A6 TSENSE0^{-}, A7 TSENSE0^{+}, A8 GND, A9 GND, A10 GND, A11 GND, B1 V_{OUT0}, B2 V_{OUT0}, B3 V_{OUT0}, B4 GND, B5 GND, B6 GND, B7 GND, B8 GND, B9 GND, B10 GND, B11 GND, C1 V_{OUT0}, C2 V_{OUT0}, C3 V_{OUT0}, C4 GND, C5 GND, C6 GND, C7 GND, C8 GND, C9 GND, C10 GND, C11 GND, D1 V_{OUT0}, D2 V_{OUT0}, D3 V_{OUT0}, D4 GND, D5 GND, D6 GND, D7 V_{IN}, D8 V_{IN}, D9 V_{IN}, D10 V_{IN}, D11 V_{IN}, E1 V_{OUT0}, E2 V_{OUT0}, E3 GND, E4 GND, E5 GND, E6 PHMODE0, E7 INTV_{CC0}, E8 V_{IN}, E9 SV_{IN0}, E10 CLKOUT0, E11 PGOOD0, F1 GND, F2 GND, F3 GND, F4 GND, F5 GND, F6 GND, F7 GND, F8 VOSNS0^{-}, F9 TRACK/SS0, F10 FREQ0, F11 RUN0, G1 GND, G2 GND, G3 GND, G4 GND, G5 GND, G6 GND, G7 TRACK/SS1, G8 VOSNS0^{+}, G9 FB0, G10 GND, G11 MODE/CLKIN0, H1 V_{OUT1}, H2 V_{OUT1}, H3 V_{OUT1}, H4 V_{OUT1}, H5 GND, H6 V_{IN}, H7 GND, H8 PGOOD1, H9 FB1, H10 COMP0a, H11 COMP0b, J1 V_{OUT1}, J2 V_{OUT1}, J3 V_{OUT1}, J4 V_{OUT1}, J5 V_{IN}, J6 V_{IN}, J7 GND, J8 RUN1, J9 GND, J10 VOSNS1, J11 COMP1, K1 GND, K2 GND, K3 GND, K4 GND, K5 GND, K6 GND, K7 GND, K8 TMON, K9 INTV_{CC12}, K10 FREQ12, K11 GND, L1 V_{OUT2}, L2 V_{OUT2}, L3 V_{OUT2}, L4 V_{OUT2}, L5 V_{IN}, L6 V_{IN}, L7 GND, L8 RUN2, L9 MODE/CLKIN12, L10 VOSNS2, L11 GND, M1 V_{OUT2}, M2 V_{OUT2}, M3 V_{OUT2}, M4 V_{OUT2}, M5 GND, M6 V_{IN}, M7 GND, M8 PGOOD2, M9 FB2, M10 GND, M11 COMP2, N1 GND, N2 GND, N3 GND, N4 GND, N5 GND, N6 GND, N7 TRACK/SS2, N8 COMP3b, N9 COMP3a, N10 FB3, N11 VOSNS3^{+}, P1 GND, P2 GND, P3 GND, P4 GND, P5 GND, P6 CLKOUT3, P7 RUN3, P8 FREQ3, P9 TRACK/SS3, P10 VOSNS3^{-}, P11 GND, R1 V_{OUT3}, R2 V_{OUT3}, R3 GND, R4 GND, R5 GND, R6 PHMODE3, R7 PGOOD3, R8 MODE/CLKIN3, R9 SV_{IN3}, R10 V_{IN}, R11 INTV_{CC3}, T1 V_{OUT3}, T2 V_{OUT3}, T3 V_{OUT3}, T4 GND, T5 GND, T6 GND, T7 V_{IN}, T8 V_{IN}, T9 V_{IN}, T10 V_{IN}, T11 V_{IN}, U1 V_{OUT3}, U2 V_{OUT3}, U3 V_{OUT3}, U4 GND, U5 GND, U6 GND, U7 GND, U8 GND, U9 GND, U10 GND, U11 GND, V1 V_{OUT3}, V2 V_{OUT3}, V3 V_{OUT3}, V4 GND, V5 GND, V6 GND, V7 GND, V8 GND, V9 GND, V10 GND, V11 GND, W1 V_{OUT3}, W2 V_{OUT3}, W3 V_{OUT3}, W4 GND, W5 GND, W6 TSENSE3^{+}, W7 TSENSE3^{-}, W8 GND, W9 GND, W10 GND, W11 GND

## LTM8049
designator *  value LTM8049  Reference: U
Dual SEPIC or Inverting μModule DC/DC Converter, 2.6 to 20V input, 2.5V to 24V or -2.5V to -24V output, 1A @ 5V output current per converter, BGA-77 package.; ki_keywords: DC/DC Converter Dual; ki_fp_filters: Analog*BGA*9x15mm*Layout7x11*P1.27mm*; Footprint: Package_BGA:Analog_BGA-77_9x15mm_Layout7x11_P1.27mm; Datasheet: https://www.analog.com/media/en/technical-documentation/data-sheets/LTM8049.pdf; Description_: Dual SEPIC or Inverting μModule DC/DC Converter, 2.6 to 20V input, 2.5V to 24V or -2.5V to -24V output, 1A @ 5V output current per converter, BGA-77 package.
pins: A1 V_{OUT1P}, A2 V_{OUT1P}, A3 GND, A4 GND, A5 V_{IN1}, A6 V_{IN1}, A7 V_{IN1}, B1 V_{OUT1P}, B2 V_{OUT1P}, B3 GND, B4 GND, B5 GND, B6 GND, B7 RUN1, C1 FBX1, C2 V_{OUT1N}, C3 GND, C4 GND, C5 GND, C6 GND, C7 SS1, D1 V_{OUT1N}, D2 V_{OUT1N}, D3 GND, D4 GND, D5 GND, D6 PG1, D7 SYNC1, E1 V_{OUT1N}, E2 V_{OUT1N}, E3 GND, E4 GND, E5 GND, E6 CLKOUT1, E7 RT1, F1 GND, F2 GND, F3 SHARE1, F4 SHARE2, F5 GND, F6 GND, F7 GND, G1 V_{OUT2N}, G2 V_{OUT2N}, G3 GND, G4 GND, G5 GND, G6 CLKOUT2, G7 RT2, H1 V_{OUT2N}, H2 V_{OUT2N}, H3 GND, H4 GND, H5 GND, H6 PG2, H7 SYNC2, J1 FBX2, J2 V_{OUT2N}, J3 GND, J4 GND, J5 GND, J6 GND, J7 SS2, K1 V_{OUT2P}, K2 V_{OUT2P}, K3 GND, K4 GND, K5 GND, K6 GND, K7 RUN2, L1 V_{OUT2P}, L2 V_{OUT2P}, L3 GND, L4 GND, L5 V_{IN2}, L6 V_{IN2}, L7 V_{IN2}

## LTM8063
designator *  value LTM8063  Reference: U
40VIN, 2A Silent Switcher µModule Regulator, BGA-28; ki_keywords: uModule DCDC; ki_fp_filters: Analog*BGA*4x6.25mm*Layout4x7*P0.8mm*; Footprint: Package_BGA:Analog_BGA-28_4x6.25mm_Layout4x7_P0.8mm; Datasheet: https://www.analog.com/media/en/technical-documentation/data-sheets/8063fa.pdf; Description_: 40VIN, 2A Silent Switcher µModule Regulator, BGA-28
pins: A1 GND, A2 FB, A3 TR/SS, A4 GND, B1 PG, B2 SYNC, B3 RUN, B4 VIN, C1 RT, C2 GND, C3 GND, C4 VIN, D1 GND, D2 GND, D3 GND, D4 GND, E1 GND, E2 GND, E3 GND, E4 GND, F1 VOUT, F2 VOUT, F3 VOUT, F4 VOUT, G1 VOUT, G2 VOUT, G3 VOUT, G4 VOUT

## LV2862XDDC
designator *  value LV2862XDDC  Reference: U
60V, 0.6A, stepdown, DC/DC converter, 770kHz; ki_keywords: step down DCDC converter regulator; ki_fp_filters: SOT?23*; Footprint: Package_TO_SOT_SMD:SOT-23-6; Datasheet: https://www.ti.com/lit/ds/symlink/lv2862.pdf; Description_: 60V, 0.6A, stepdown, DC/DC converter, 770kHz
pins: 1 CB, 2 GND, 3 FB, 4 ~{{SHDN}}, 5 VIN, 6 SW

## LV2862YDDC
designator *  value LV2862YDDC  Reference: U
60V, 0.6A, stepdown, DC/DC converter, 2.1MHz; ki_keywords: step down DCDC converter regulator; ki_fp_filters: SOT*23*; Footprint: Package_TO_SOT_SMD:SOT-23-6; Datasheet: https://www.ti.com/lit/ds/symlink/lv2862.pdf; Description_: 60V, 0.6A, stepdown, DC/DC converter, 2.1MHz
pins: 1 CB, 2 GND, 3 FB, 4 ~{{SHDN}}, 5 VIN, 6 SW

## MAX777L
designator *  value MAX777L  Reference: U
210mA, Low voltage input, step-up DC-DC converter, 5V output voltage, DIP-8/SO-8; ki_keywords: switching regulator boost step-up dc-dc; ki_fp_filters: SOIC*3.9x4.9mm*P1.27mm* DIP*W7.62mm*; Datasheet: https://kanga.gerbilator.org/ICs/MAX777.pdf; Description_: 210mA, Low voltage input, step-up DC-DC converter, 5V output voltage, DIP-8/SO-8
pins: 1 ILIM, 2 IN, 3 AGND, 4 PGND, 5 LX, 6 OUT, 7 ~{{SHDN}}, 8 NC

## MAX778L
designator *  value MAX778L  Reference: U
210mA, Low voltage input, step-up DC-DC converter, 3V/3.3V output voltage, DIP-8/SO-8; ki_keywords: switching regulator boost step-up dc-dc; ki_fp_filters: SOIC*3.9x4.9mm*P1.27mm* DIP*W7.62mm*; Datasheet: https://kanga.gerbilator.org/ICs/MAX777.pdf; Description_: 210mA, Low voltage input, step-up DC-DC converter, 3V/3.3V output voltage, DIP-8/SO-8
pins: 1 ILIM, 2 IN, 3 AGND, 4 PGND, 5 LX, 6 OUT, 7 ~{{SHDN}}, 8 SEL

## MAX779L
designator *  value MAX779L  Reference: U
210mA, Low voltage input, step-up DC-DC converter, adjustable output voltage, DIP-8/SO-8; ki_keywords: switching regulator boost step-up dc-dc; ki_fp_filters: SOIC*3.9x4.9mm*P1.27mm* DIP*W7.62mm*; Datasheet: https://kanga.gerbilator.org/ICs/MAX777.pdf; Description_: 210mA, Low voltage input, step-up DC-DC converter, adjustable output voltage, DIP-8/SO-8
pins: 1 ILIM, 2 IN, 3 AGND, 4 PGND, 5 LX, 6 OUT, 7 ~{{SHDN}}, 8 FB

## MAX1522
designator *  value MAX1522  Reference: U
Boost converter, external switch, soft-start, latch on output fault, 2.5V..5.5Vin,  SOT-23-6; ki_keywords: maxim analog-devices; ki_fp_filters: SOT?23*; Footprint: Package_TO_SOT_SMD:SOT-23-6; Datasheet: https://www.analog.com/media/en/technical-documentation/data-sheets/MAX1522-MAX1524.pdf; Description_: Boost converter, external switch, soft-start, latch on output fault, 2.5V..5.5Vin,  SOT-23-6
pins: 1 GND, 2 FB, 3 SET, 4 ~{{SHDN}}, 5 EXT, 6 V_{CC}

## MAX1523
designator *  value MAX1523  Reference: U
Boost converter, external switch, soft-start, retry on output fault, 2.5V..5.5Vin,  SOT-23-6; ki_keywords: maxim analog-devices; ki_fp_filters: SOT?23*; Footprint: Package_TO_SOT_SMD:SOT-23-6; Datasheet: https://www.analog.com/media/en/technical-documentation/data-sheets/MAX1522-MAX1524.pdf; Description_: Boost converter, external switch, soft-start, retry on output fault, 2.5V..5.5Vin,  SOT-23-6
pins: 1 GND, 2 FB, 3 SET, 4 ~{{SHDN}}, 5 EXT, 6 V_{CC}

## MAX1524
designator *  value MAX1524  Reference: U
Boost converter, 1.5V startup, external switch, soft-start, bootstrapped operation, latch on output fault, 1.5V..5.5Vin,  SOT-23-6; ki_keywords: maxim analog-devices; ki_fp_filters: SOT?23*; Footprint: Package_TO_SOT_SMD:SOT-23-6; Datasheet: https://www.analog.com/media/en/technical-documentation/data-sheets/MAX1522-MAX1524.pdf; Description_: Boost converter, 1.5V startup, external switch, soft-start, bootstrapped operation, latch on output fault, 1.5V..5.5Vin,  SOT-23-6
pins: 1 GND, 2 FB, 3 SET, 4 ~{{SHDN}}, 5 EXT, 6 V_{CC}

## MAX1771xSA
designator *  value MAX1771xSA  Reference: U
12V or Adjustable, High-Efficiency, Low IQ, Step-Up DC-DC Controller, SO-8; ki_keywords: Adjustable Step-Up Boost Controller; ki_fp_filters: SO*3.9x4.9mm*P1.27mm*; Footprint: Package_SO:SO-8_3.9x4.9mm_P1.27mm; Datasheet: https://datasheets.maximintegrated.com/en/ds/MAX1771.pdf; Description_: 12V or Adjustable, High-Efficiency, Low IQ, Step-Up DC-DC Controller, SO-8
pins: 1 EXT, 2 V+, 3 FB, 4 SHDN, 5 REF, 6 AGND, 7 GND, 8 CS

## MAX5035AUPA
designator *  value MAX5035AUPA  Reference: U
1A, High-Efficiency Step-Down DC-DC Converter, 3.3V fixed output voltage, Vin 76V, PDIP-8; ki_keywords: 3.3V 1A Step-Down Converter 76V; ki_fp_filters: DIP*W7.62mm*; Footprint: Package_DIP:DIP-8_W7.62mm; Datasheet: http://datasheets.maximintegrated.com/en/ds/MAX5035.pdf; Description_: 1A, High-Efficiency Step-Down DC-DC Converter, 3.3V fixed output voltage, Vin 76V, PDIP-8
pins: 1 BST, 2 VD, 3 SGND, 4 FB, 5 ON/~{{OFF}}, 6 GND, 7 VIN, 8 LX

## MAX5035AUSA
designator *  value MAX5035AUSA  Reference: U
1A, High-Efficiency Step-Down DC-DC Converter, 3.3V fixed output voltage, Vin 76V, SO-8; ki_keywords: 3.3V 1A Step-Down Converter 76V; ki_fp_filters: SOIC*3.9x4.9mm*P1.27mm*; Footprint: Package_SO:SOIC-8_3.9x4.9mm_P1.27mm; Datasheet: http://datasheets.maximintegrated.com/en/ds/MAX5035.pdf; Description_: 1A, High-Efficiency Step-Down DC-DC Converter, 3.3V fixed output voltage, Vin 76V, SO-8
pins: 1 BST, 2 VD, 3 SGND, 4 FB, 5 ON/~{{OFF}}, 6 GND, 7 VIN, 8 LX

## MAX5035BUPA
designator *  value MAX5035BUPA  Reference: U
1A, High-Efficiency Step-Down DC-DC Converter, 5V fixed output voltage, Vin 76V, PDIP-8; ki_keywords: 5V 1A Step-Down Converter 76V; ki_fp_filters: DIP*W7.62mm*; Footprint: Package_DIP:DIP-8_W7.62mm; Datasheet: http://datasheets.maximintegrated.com/en/ds/MAX5035.pdf; Description_: 1A, High-Efficiency Step-Down DC-DC Converter, 5V fixed output voltage, Vin 76V, PDIP-8
pins: 1 BST, 2 VD, 3 SGND, 4 FB, 5 ON/~{{OFF}}, 6 GND, 7 VIN, 8 LX